# Altium integrated library 1571983-5.IntLib: 2 symbols
Pins are listed as number, name and electrical type; pins without a type are passive.

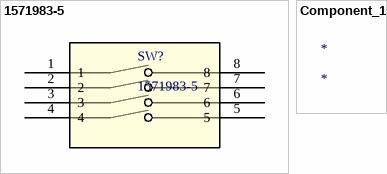
[diagram p0: symbols 1571983-5 to Component_1]

## 1571983-5
designator SW?
No Description Available; Mfr_Name: TE Connectivity; Copyright: Copyright (C) 2022 Ultra Librarian. All rights reserved.; Manufacturer_Part_Number: 1571983-5; Digi-Key_Part_Number_1: 450-1762-1-ND; Digi-Key_Part_Number_2: 450-1762-2-ND; Digi-Key_Part_Number_3: 450-1762-6-ND; RefDes: RefDes; Type: DEV
footprint SW4_1571983_4P_TEC
pins: 1, 2, 3, 4, 5, 6, 7, 8

## Component_1
designator *